# Altium integrated library TI Power Management Linear Regulator Single Channel LDO (0-350mA).IntLib: 1648 symbols (part 57 of 66)
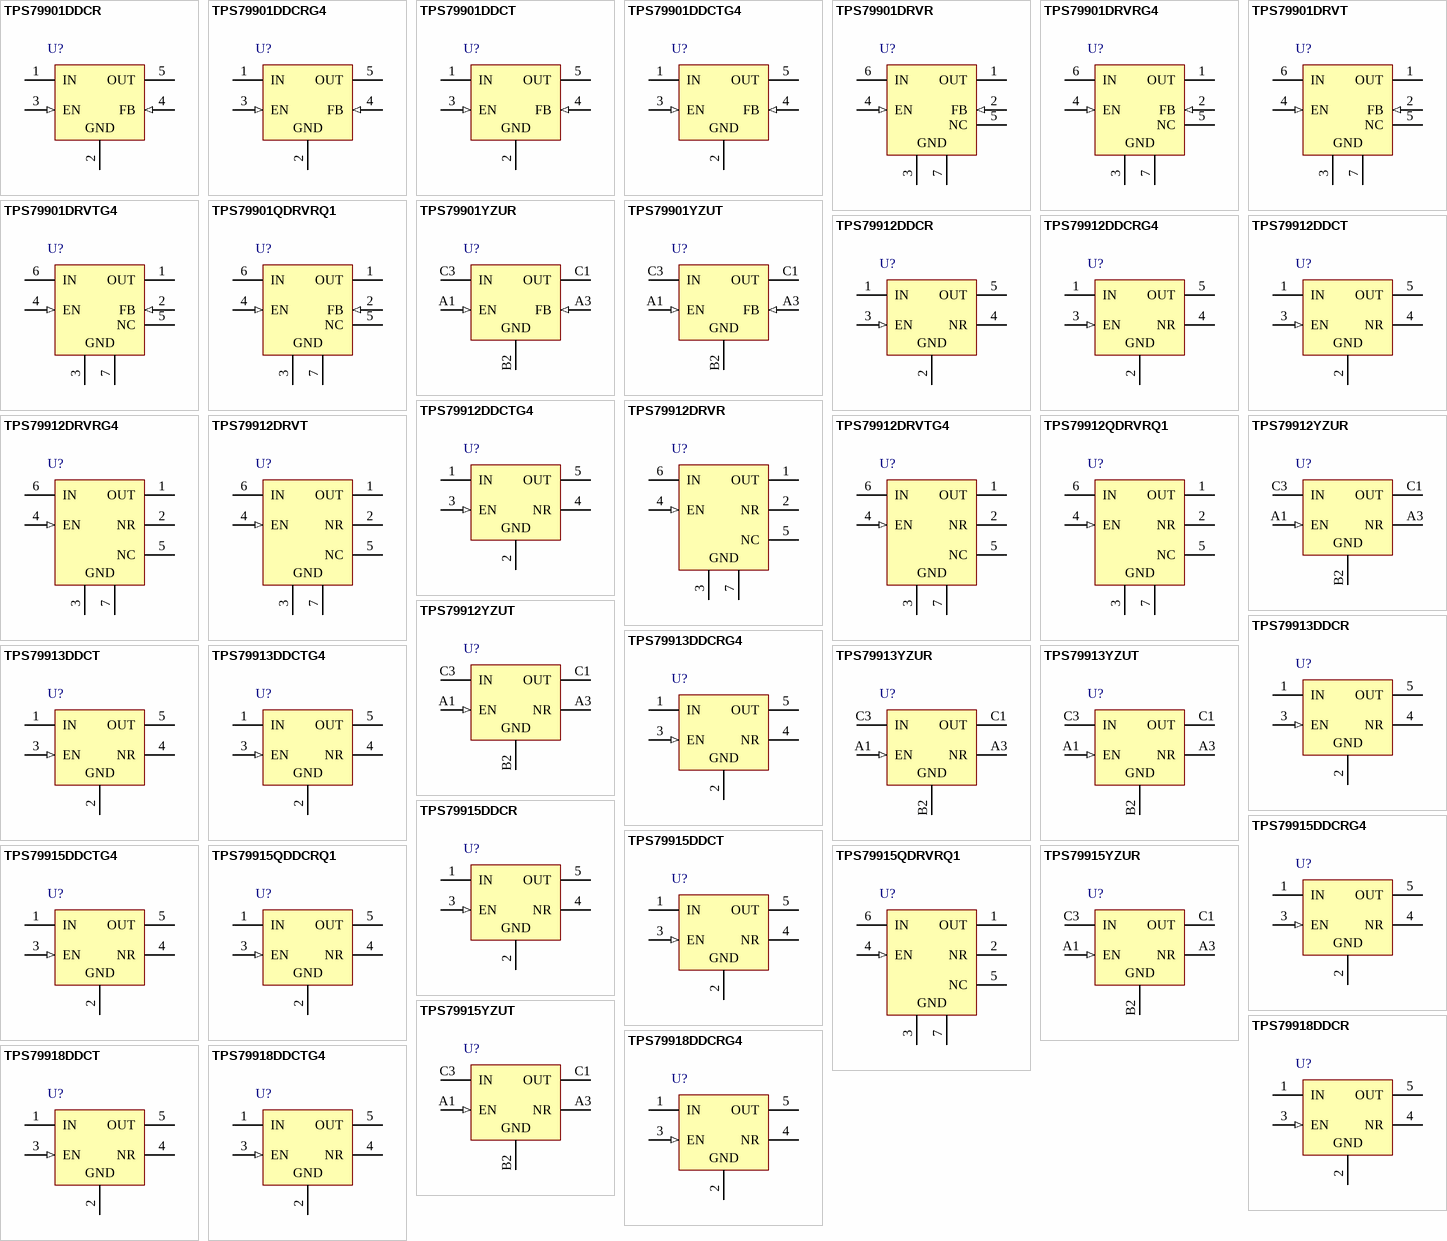
[diagram p98: symbols TPS79901DDCR to TPS79918DDCTG4]

## TPS79918DDCT
designator U?
Single Output High PSRR LDO, 200 mA, Fixed 1.8 V Output, 2.7 to 6.5 V Input, with Low IQ, 5-pin SOT (DDC), -40 to 85 degC, Green (RoHS & no Sb/Br); Manufacturer: Texas Instruments; PartNumber: TPS79918DDCT; Accuracy(%): 2; Fixed Output Options(V): 1.8; Iout(Max)(A): 0.2; Iq(Typ)(mA): 0.04; Rating: Catalog; SubFamily: Single Channel LDO; Vdo(Typ)(mV): 100; Vin(Max)(V): 6.5; Vin(Min)(V): 2.7; DatasheetVersion: SBVS056J; PackageVersion: 4204403-2/E; PackageReference: DDC5; PackageDescription: 5-Pin Plastic Small Outline, Body 2.9 x 1.6 mm, 0.95 mm Pitch; Supplier 1: Digi-Key; Supplier Part Number 1: 296-27117-2-ND; Supplier 2: Digi-Key; Supplier Part Number 2: 296-27117-1-ND; Supplier 3: Digi-Key; Supplier Part Number 3: 296-27117-6-ND; Supplier 4: Farnell; Supplier Part Number 4: 1135398RL; Supplier 5: Farnell; Supplier Part Number 5: 1135398; Supplier 6: Newark; Supplier Part Number 6: 93K0948; Supplier 7: Mouser; Supplier Part Number 7: 595-TPS79918DDCT; Eco-Plan: Green (RoHS & no Sb/Br); Vout Adj(Max)(V): 1.8; Vout Adj(Min)(V): 1.8; Mounting Technology: Surface Mount; Code_JEDEC: MO-193; ComponentLink1Description: Manufacturer URL; ComponentLink1URL: http://www.ti.com/; ComponentLink2Description: Datasheet; ComponentLink2URL: http://www.ti.com/general/docs/lit/getliterature.tsp?genericPartNumber=TPS79918&fileType=pdf; ComponentLink3Description: Package Specification; ComponentLink3URL: http://www.ti.com/litv/pdf/mpds123d
footprint TI-DDC5_N (SOT23, 5-Leads, Body 2.9x1.6mm, Pitch 0.95mm, IPC Medium Density)
footprint TI-DDC5_L (SOT23, 5-Leads, Body 2.9x1.6mm, Pitch 0.95mm, IPC High Density)
footprint TI-DDC5_M (SOT23, 5-Leads, Body 2.9x1.6mm, Pitch 0.95mm, IPC Low Density)
pins: 1 IN (power) "Input supply.", 2 GND (power) "Ground.", 3 EN (in) "Driving the enable pin (EN) high turns on the regulator .Driving this pin low puts the regulator into shutdown mode.EN can be connected to IN if not used.", 4 NR "Fixed voltage versions only; connecting an external capacitor to this pin bypasses noise generated by the internal bandgap. This capacitor allows output noise to be reduced to very low levels.", 5 OUT (power) "Output for the regulator. A small capacitor (total typical capacitance >= 2.0uF ceramic) is needed from this pin to ground to assure stability."

## TPS79918DDCTG4
designator U?
Single Output High PSRR LDO, 200 mA, Fixed 1.8 V Output, 2.7 to 6.5 V Input, with Low IQ, 5-pin SOT (DDC), -40 to 85 degC, Green (RoHS & no Sb/Br); Manufacturer: Texas Instruments; PartNumber: TPS79918DDCTG4; Accuracy(%): 2; Fixed Output Options(V): 1.8; Iout(Max)(A): 0.2; Iq(Typ)(mA): 0.04; Rating: Catalog; SubFamily: Single Channel LDO; Vdo(Typ)(mV): 100; Vin(Max)(V): 6.5; Vin(Min)(V): 2.7; DatasheetVersion: SBVS056J; PackageVersion: 4204403-2/E; PackageReference: DDC5; PackageDescription: 5-Pin Plastic Small Outline, Body 2.9 x 1.6 mm, 0.95 mm Pitch; Supplier 1: Digi-Key; Supplier Part Number 1: TPS79918DDCTG4-ND; Supplier 2: Newark; Supplier Part Number 2: 24K6233; Supplier 3: Mouser; Supplier Part Number 3: 595-TPS79918DDCTG4; Eco-Plan: Green (RoHS & no Sb/Br); Vout Adj(Max)(V): 1.8; Vout Adj(Min)(V): 1.8; Mounting Technology: Surface Mount; Code_JEDEC: MO-193; ComponentLink1Description: Manufacturer URL; ComponentLink1URL: http://www.ti.com/; ComponentLink2Description: Datasheet; ComponentLink2URL: http://www.ti.com/general/docs/lit/getliterature.tsp?genericPartNumber=TPS79918&fileType=pdf; ComponentLink3Description: Package Specification; ComponentLink3URL: http://www.ti.com/litv/pdf/mpds123d
footprint TI-DDC5_N (SOT23, 5-Leads, Body 2.9x1.6mm, Pitch 0.95mm, IPC Medium Density)
footprint TI-DDC5_L (SOT23, 5-Leads, Body 2.9x1.6mm, Pitch 0.95mm, IPC High Density)
footprint TI-DDC5_M (SOT23, 5-Leads, Body 2.9x1.6mm, Pitch 0.95mm, IPC Low Density)
pins: 1 IN (power) "Input supply.", 2 GND (power) "Ground.", 3 EN (in) "Driving the enable pin (EN) high turns on the regulator .Driving this pin low puts the regulator into shutdown mode.EN can be connected to IN if not used.", 4 NR "Fixed voltage versions only; connecting an external capacitor to this pin bypasses noise generated by the internal bandgap. This capacitor allows output noise to be reduced to very low levels.", 5 OUT (power) "Output for the regulator. A small capacitor (total typical capacitance >= 2.0uF ceramic) is needed from this pin to ground to assure stability."

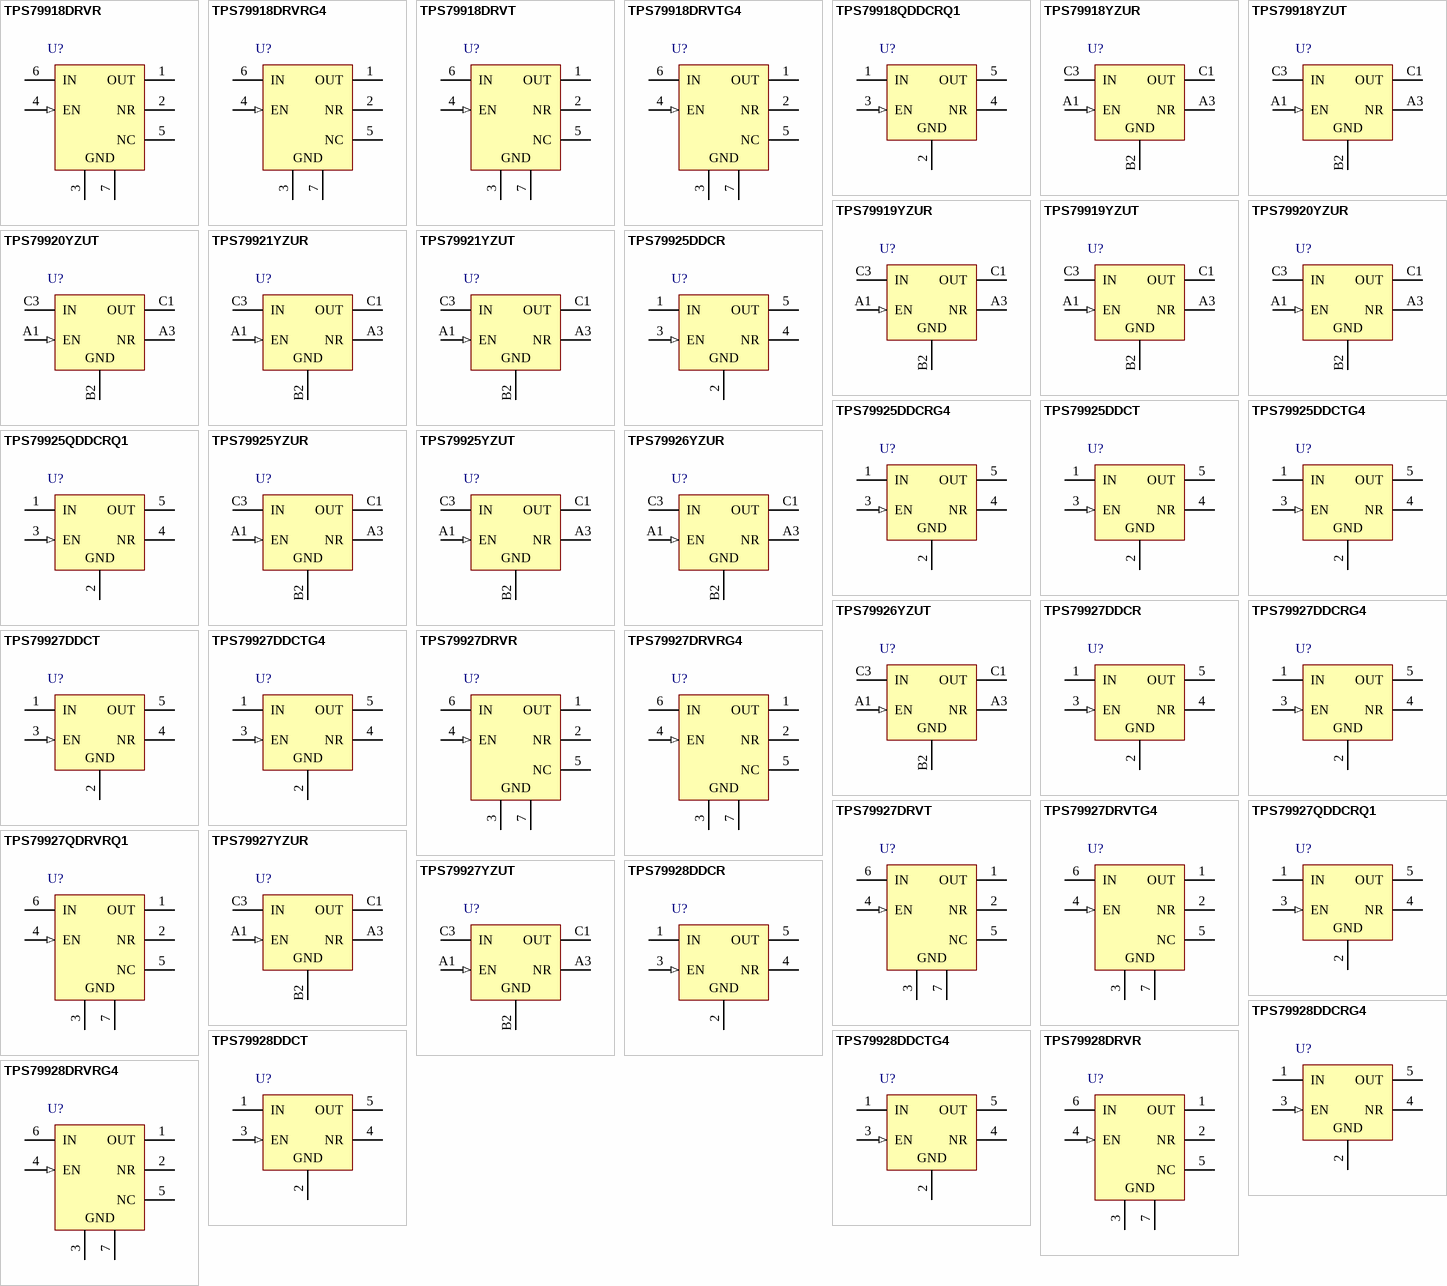
[diagram p37: symbols TPS79918DRVR to TPS79928DRVRG4]

## TPS79918DRVR
designator U?
Single Output High PSRR LDO, 200 mA, Fixed 1.8 V Output, 2.7 to 6.5 V Input, with Low IQ, 6-pin SON (DRV), -40 to 85 degC, Green (RoHS & no Sb/Br); Manufacturer: Texas Instruments; PartNumber: TPS79918DRVR; Accuracy(%): 2; Fixed Output Options(V): 1.8; Iout(Max)(A): 0.2; Iq(Typ)(mA): 0.04; Rating: Catalog; SubFamily: Single Channel LDO; Vdo(Typ)(mV): 100; Vin(Max)(V): 6.5; Vin(Min)(V): 2.7; DatasheetVersion: SBVS056J; PackageVersion: 4206925/E; PackageReference: DRV6-1600X1000TP; PackageDescription: 6-Pin Plastic Small Outline No-Lead, Body 2 x 2 mm, Pitch 0.65 mm; Supplier 1: Digi-Key; Supplier Part Number 1: TPS79918DRVR-ND; Supplier 2: Newark; Supplier Part Number 2: 66K4567; Supplier 3: Mouser; Supplier Part Number 3: 595-TPS79918DRVR; Eco-Plan: Green (RoHS & no Sb/Br); Vout Adj(Max)(V): 1.8; Vout Adj(Min)(V): 1.8; Mounting Technology: Surface Mount; ComponentLink1Description: Manufacturer URL; ComponentLink1URL: http://www.ti.com/; ComponentLink2Description: Datasheet; ComponentLink2URL: http://www.ti.com/general/docs/lit/getliterature.tsp?genericPartNumber=TPS79918&fileType=pdf; ComponentLink3Description: Package Specification; ComponentLink3URL: http://www.ti.com/litv/pdf/mpds216d
footprint TI-DRV6-1600X1000TP_V (SON, 6-Leads, Body 2x2mm, Pitch 0.65mm, Thermal Pad 1X1.6mm)
pins: 1 OUT (power) "Output of the regulator. A small capacitor (total typical capacitance >= 2.0uF ceramic) is needed from this pin to ground to assure stability.", 2 NR "Fixed voltage versions only; connecting an external capacitor to this pin bypasses noise generated by the internal bandgap. This allows output noise to be reduced to very low levels.", 3 GND (power) "Ground", 4 EN (in) "Driving the enable pin (EN) high turns on the regulator. Driving this pin low puts the regulator into shutdown mode. EN can be connected to IN if not used.", 5 NC "Not internally connected. This pin must either be left open, or tied to GND.", 6 IN (power) "Input supply.", 7 GND (power) "The pad must be tied to GND."

## TPS79918DRVRG4
designator U?
Single Output High PSRR LDO, 200 mA, Fixed 1.8 V Output, 2.7 to 6.5 V Input, with Low IQ, 6-pin SON (DRV), -40 to 85 degC, Green (RoHS & no Sb/Br); Manufacturer: Texas Instruments; PartNumber: TPS79918DRVRG4; Accuracy(%): 2; Fixed Output Options(V): 1.8; Iout(Max)(A): 0.2; Iq(Typ)(mA): 0.04; Rating: Catalog; SubFamily: Single Channel LDO; Vdo(Typ)(mV): 100; Vin(Max)(V): 6.5; Vin(Min)(V): 2.7; DatasheetVersion: SBVS056J; PackageVersion: 4206925/E; PackageReference: DRV6-1600X1000TP; PackageDescription: 6-Pin Plastic Small Outline No-Lead, Body 2 x 2 mm, Pitch 0.65 mm; Supplier 1: Digi-Key; Supplier Part Number 1: TPS79918DRVRG4-ND; Supplier 2: Mouser; Supplier Part Number 2: 595-TPS79918DRVRG4; Eco-Plan: Green (RoHS & no Sb/Br); Vout Adj(Max)(V): 1.8; Vout Adj(Min)(V): 1.8; Mounting Technology: Surface Mount; ComponentLink1Description: Manufacturer URL; ComponentLink1URL: http://www.ti.com/; ComponentLink2Description: Datasheet; ComponentLink2URL: http://www.ti.com/general/docs/lit/getliterature.tsp?genericPartNumber=TPS79918&fileType=pdf; ComponentLink3Description: Package Specification; ComponentLink3URL: http://www.ti.com/litv/pdf/mpds216d
footprint TI-DRV6-1600X1000TP_V (SON, 6-Leads, Body 2x2mm, Pitch 0.65mm, Thermal Pad 1X1.6mm)
pins: 1 OUT (power) "Output of the regulator. A small capacitor (total typical capacitance >= 2.0uF ceramic) is needed from this pin to ground to assure stability.", 2 NR "Fixed voltage versions only; connecting an external capacitor to this pin bypasses noise generated by the internal bandgap. This allows output noise to be reduced to very low levels.", 3 GND (power) "Ground", 4 EN (in) "Driving the enable pin (EN) high turns on the regulator. Driving this pin low puts the regulator into shutdown mode. EN can be connected to IN if not used.", 5 NC "Not internally connected. This pin must either be left open, or tied to GND.", 6 IN (power) "Input supply.", 7 GND (power) "The pad must be tied to GND."

## TPS79918DRVT
designator U?
Single Output High PSRR LDO, 200 mA, Fixed 1.8 V Output, 2.7 to 6.5 V Input, with Low IQ, 6-pin SON (DRV), -40 to 85 degC, Green (RoHS & no Sb/Br); Manufacturer: Texas Instruments; PartNumber: TPS79918DRVT; Accuracy(%): 2; Fixed Output Options(V): 1.8; Iout(Max)(A): 0.2; Iq(Typ)(mA): 0.04; Rating: Catalog; SubFamily: Single Channel LDO; Vdo(Typ)(mV): 100; Vin(Max)(V): 6.5; Vin(Min)(V): 2.7; DatasheetVersion: SBVS056J; PackageVersion: 4206925/E; PackageReference: DRV6-1600X1000TP; PackageDescription: 6-Pin Plastic Small Outline No-Lead, Body 2 x 2 mm, Pitch 0.65 mm; Supplier 1: Digi-Key; Supplier Part Number 1: 296-19367-2-ND; Supplier 2: Digi-Key; Supplier Part Number 2: 296-19367-1-ND; Supplier 3: Digi-Key; Supplier Part Number 3: 296-19367-6-ND; Supplier 4: Newark; Supplier Part Number 4: 66K4568; Supplier 5: Mouser; Supplier Part Number 5: 595-TPS79918DRVT; Eco-Plan: Green (RoHS & no Sb/Br); Vout Adj(Max)(V): 1.8; Vout Adj(Min)(V): 1.8; Mounting Technology: Surface Mount; ComponentLink1Description: Manufacturer URL; ComponentLink1URL: http://www.ti.com/; ComponentLink2Description: Datasheet; ComponentLink2URL: http://www.ti.com/general/docs/lit/getliterature.tsp?genericPartNumber=TPS79918&fileType=pdf; ComponentLink3Description: Package Specification; ComponentLink3URL: http://www.ti.com/litv/pdf/mpds216d
footprint TI-DRV6-1600X1000TP_V (SON, 6-Leads, Body 2x2mm, Pitch 0.65mm, Thermal Pad 1X1.6mm)
pins: 1 OUT (power) "Output of the regulator. A small capacitor (total typical capacitance >= 2.0uF ceramic) is needed from this pin to ground to assure stability.", 2 NR "Fixed voltage versions only; connecting an external capacitor to this pin bypasses noise generated by the internal bandgap. This allows output noise to be reduced to very low levels.", 3 GND (power) "Ground", 4 EN (in) "Driving the enable pin (EN) high turns on the regulator. Driving this pin low puts the regulator into shutdown mode. EN can be connected to IN if not used.", 5 NC "Not internally connected. This pin must either be left open, or tied to GND.", 6 IN (power) "Input supply.", 7 GND (power) "The pad must be tied to GND."

## TPS79918DRVTG4
designator U?
Single Output High PSRR LDO, 200 mA, Fixed 1.8 V Output, 2.7 to 6.5 V Input, with Low IQ, 6-pin SON (DRV), -40 to 85 degC, Green (RoHS & no Sb/Br); Manufacturer: Texas Instruments; PartNumber: TPS79918DRVTG4; Accuracy(%): 2; Fixed Output Options(V): 1.8; Iout(Max)(A): 0.2; Iq(Typ)(mA): 0.04; Rating: Catalog; SubFamily: Single Channel LDO; Vdo(Typ)(mV): 100; Vin(Max)(V): 6.5; Vin(Min)(V): 2.7; DatasheetVersion: SBVS056J; PackageVersion: 4206925/E; PackageReference: DRV6-1600X1000TP; PackageDescription: 6-Pin Plastic Small Outline No-Lead, Body 2 x 2 mm, Pitch 0.65 mm; Supplier 1: Digi-Key; Supplier Part Number 1: TPS79918DRVTG4-ND; Supplier 2: Mouser; Supplier Part Number 2: 595-TPS79918DRVTG4; Eco-Plan: Green (RoHS & no Sb/Br); Vout Adj(Max)(V): 1.8; Vout Adj(Min)(V): 1.8; Mounting Technology: Surface Mount; ComponentLink1Description: Manufacturer URL; ComponentLink1URL: http://www.ti.com/; ComponentLink2Description: Datasheet; ComponentLink2URL: http://www.ti.com/general/docs/lit/getliterature.tsp?genericPartNumber=TPS79918&fileType=pdf; ComponentLink3Description: Package Specification; ComponentLink3URL: http://www.ti.com/litv/pdf/mpds216d
footprint TI-DRV6-1600X1000TP_V (SON, 6-Leads, Body 2x2mm, Pitch 0.65mm, Thermal Pad 1X1.6mm)
pins: 1 OUT (power) "Output of the regulator. A small capacitor (total typical capacitance >= 2.0uF ceramic) is needed from this pin to ground to assure stability.", 2 NR "Fixed voltage versions only; connecting an external capacitor to this pin bypasses noise generated by the internal bandgap. This allows output noise to be reduced to very low levels.", 3 GND (power) "Ground", 4 EN (in) "Driving the enable pin (EN) high turns on the regulator. Driving this pin low puts the regulator into shutdown mode. EN can be connected to IN if not used.", 5 NC "Not internally connected. This pin must either be left open, or tied to GND.", 6 IN (power) "Input supply.", 7 GND (power) "The pad must be tied to GND."

## TPS79918QDDCRQ1
designator U?
Single Output High PSRR LDO, 200 mA, Fixed 1.8 V Output, 2.7 to 6.5 V Input, with Low IQ, 5-pin SOT (DDC), -40 to 125 degC, Green (RoHS & no Sb/Br); Manufacturer: Texas Instruments; PartNumber: TPS79918QDDCRQ1; Accuracy(%): 2; Fixed Output Options(V): 1.8; Iout(Max)(A): 0.2; Iq(Typ)(mA): 0.04; Rating: Automotive; SubFamily: Single Channel LDO; Vdo(Typ)(mV): 100; Vin(Max)(V): 6.5; Vin(Min)(V): 2.7; DatasheetVersion: SBVS097E; PackageVersion: 4204403-2/E; PackageReference: DDC5; PackageDescription: 5-Pin Plastic Small Outline, Body 2.9 x 1.6 mm, 0.95 mm Pitch; Supplier 1: Digi-Key; Supplier Part Number 1: 296-24781-2-ND; Supplier 2: Digi-Key; Supplier Part Number 2: 296-24781-1-ND; Supplier 3: Digi-Key; Supplier Part Number 3: 296-24781-6-ND; Supplier 4: Newark; Supplier Part Number 4: 03P5281; Supplier 5: Mouser; Supplier Part Number 5: 595-TPS79918QDDCRQ1; Eco-Plan: Green (RoHS & no Sb/Br); Vout Adj(Max)(V): 1.8; Vout Adj(Min)(V): 1.8; Mounting Technology: Surface Mount; Code_JEDEC: MO-193; ComponentLink1Description: Manufacturer URL; ComponentLink1URL: http://www.ti.com/; ComponentLink2Description: Datasheet; ComponentLink2URL: http://www.ti.com/general/docs/lit/getliterature.tsp?genericPartNumber=TPS79918-Q1&fileType=pdf; ComponentLink3Description: Package Specification; ComponentLink3URL: http://www.ti.com/litv/pdf/mpds123d
footprint TI-DDC5_N (SOT23, 5-Leads, Body 2.9x1.6mm, Pitch 0.95mm, IPC Medium Density)
footprint TI-DDC5_L (SOT23, 5-Leads, Body 2.9x1.6mm, Pitch 0.95mm, IPC High Density)
footprint TI-DDC5_M (SOT23, 5-Leads, Body 2.9x1.6mm, Pitch 0.95mm, IPC Low Density)
pins: 1 IN (power) "Input supply.", 2 GND (power) "Ground.", 3 EN (in) "Driving the enable pin (EN) high turns on the regulator .Driving this pin low puts the regulator into shutdown mode.EN can be connected to IN if not used.", 4 NR "Fixed voltage versions only; connecting an external capacitor to this pin bypasses noise generated by the internal bandgap. This capacitor allows output noise to be reduced to very low levels.", 5 OUT (power) "Output for the regulator. A small capacitor (total typical capacitance >= 2.0uF ceramic) is needed from this pin to ground to assure stability."

## TPS79918YZUR
designator U?
Single Output High PSRR LDO, 200 mA, Fixed 1.8 V Output, 2.7 to 6.5 V Input, with Low IQ, 5-pin DSBGA (YZU), -40 to 85 degC, Green (RoHS & no Sb/Br); Manufacturer: Texas Instruments; PartNumber: TPS79918YZUR; Accuracy(%): 2; Fixed Output Options(V): 1.8; Iout(Max)(A): 0.2; Iq(Typ)(mA): 0.04; Rating: Catalog; SubFamily: Single Channel LDO; Vdo(Typ)(mV): 100; Vin(Max)(V): 6.5; Vin(Min)(V): 2.7; DatasheetVersion: SBVS056J; PackageVersion: 4205678/D; PackageReference: YZU5; PackageDescription: 5-Pin Silicon Grid Array, Body 1.337 x 0.971 mm, Pitch 0.25 mm; Supplier 1: Digi-Key; Supplier Part Number 1: 296-19482-2-ND; Supplier 2: Digi-Key; Supplier Part Number 2: 296-19482-1-ND; Supplier 3: Digi-Key; Supplier Part Number 3: 296-19482-6-ND; Supplier 4: Newark; Supplier Part Number 4: 69K0685; Supplier 5: Mouser; Supplier Part Number 5: 595-TPS79918YZUR; Eco-Plan: Green (RoHS & no Sb/Br); Vout Adj(Max)(V): 1.8; Vout Adj(Min)(V): 1.8; Mounting Technology: Surface Mount; ComponentLink1Description: Manufacturer URL; ComponentLink1URL: http://www.ti.com/; ComponentLink2Description: Datasheet; ComponentLink2URL: http://www.ti.com/general/docs/lit/getliterature.tsp?genericPartNumber=TPS79918&fileType=pdf; ComponentLink3Description: Package Specification; ComponentLink3URL: http://www.ti.com/litv/pdf/mpds018i
footprint TI-YZU5-1337x971DE (BGA, 5-Balls, Body 1.337x0.971mm, Pitch 0.25mm)
pins: A1 EN (in) "Driving the enable pin (EN) high turns on the regulator. Driving this pin low puts the regulator into shutdown mode. EN can be connected to IN if not used.", A3 NR "Fixed voltage versions only; connecting an external capacitor to this pin bypasses noise generated by the internal bandgap. This capacitor allows output noise to be reduced to very low levels.", B2 GND (power) "Ground", C1 OUT (power) "Output of the regulator. A small capacitor (total typical capacitance >= 2.0mF ceramic) is needed from this pin to ground to assure stability.", C3 IN (power) "Input supply."

## TPS79918YZUT
designator U?
Single Output High PSRR LDO, 200 mA, Fixed 1.8 V Output, 2.7 to 6.5 V Input, with Low IQ, 5-pin DSBGA (YZU), -40 to 85 degC, Green (RoHS & no Sb/Br); Manufacturer: Texas Instruments; PartNumber: TPS79918YZUT; Accuracy(%): 2; Fixed Output Options(V): 1.8; Iout(Max)(A): 0.2; Iq(Typ)(mA): 0.04; Rating: Catalog; SubFamily: Single Channel LDO; Vdo(Typ)(mV): 100; Vin(Max)(V): 6.5; Vin(Min)(V): 2.7; DatasheetVersion: SBVS056J; PackageVersion: 4205678/D; PackageReference: YZU5; PackageDescription: 5-Pin Silicon Grid Array, Body 1.337 x 0.971 mm, Pitch 0.25 mm; Supplier 1: Digi-Key; Supplier Part Number 1: 296-19300-2-ND; Supplier 2: Digi-Key; Supplier Part Number 2: 296-19300-1-ND; Supplier 3: Newark; Supplier Part Number 3: 69K0686; Supplier 4: Mouser; Supplier Part Number 4: 595-TPS79918YZUT; Eco-Plan: Green (RoHS & no Sb/Br); Vout Adj(Max)(V): 1.8; Vout Adj(Min)(V): 1.8; Mounting Technology: Surface Mount; ComponentLink1Description: Manufacturer URL; ComponentLink1URL: http://www.ti.com/; ComponentLink2Description: Datasheet; ComponentLink2URL: http://www.ti.com/general/docs/lit/getliterature.tsp?genericPartNumber=TPS79918&fileType=pdf; ComponentLink3Description: Package Specification; ComponentLink3URL: http://www.ti.com/litv/pdf/mpds018i
footprint TI-YZU5-1337x971DE (BGA, 5-Balls, Body 1.337x0.971mm, Pitch 0.25mm)
pins: A1 EN (in) "Driving the enable pin (EN) high turns on the regulator. Driving this pin low puts the regulator into shutdown mode. EN can be connected to IN if not used.", A3 NR "Fixed voltage versions only; connecting an external capacitor to this pin bypasses noise generated by the internal bandgap. This capacitor allows output noise to be reduced to very low levels.", B2 GND (power) "Ground", C1 OUT (power) "Output of the regulator. A small capacitor (total typical capacitance >= 2.0mF ceramic) is needed from this pin to ground to assure stability.", C3 IN (power) "Input supply."

## TPS79919YZUR
designator U?
Single Output High PSRR LDO, 200 mA, Fixed 1.9 V Output, 2.7 to 6.5 V Input, with Low IQ, 5-pin DSBGA (YZU), -40 to 85 degC, Green (RoHS & no Sb/Br); Manufacturer: Texas Instruments; PartNumber: TPS79919YZUR; Accuracy(%): 2; Fixed Output Options(V): 1.9; Iout(Max)(A): 0.2; Iq(Typ)(mA): 0.04; Rating: Catalog; SubFamily: Single Channel LDO; Vdo(Typ)(mV): 100; Vin(Max)(V): 6.5; Vin(Min)(V): 2.7; DatasheetVersion: SBVS056J; PackageVersion: 4205678/D; PackageReference: YZU5; PackageDescription: 5-Pin Silicon Grid Array, Body 1.337 x 0.971 mm, Pitch 0.25 mm; Supplier 1: Digi-Key; Supplier Part Number 1: TPS79919YZUR-ND; Supplier 2: Newark; Supplier Part Number 2: 57K1333; Supplier 3: Mouser; Supplier Part Number 3: 595-TPS79919YZUR; Eco-Plan: Green (RoHS & no Sb/Br); Vout Adj(Max)(V): 1.9; Vout Adj(Min)(V): 1.9; Mounting Technology: Surface Mount; ComponentLink1Description: Manufacturer URL; ComponentLink1URL: http://www.ti.com/; ComponentLink2Description: Datasheet; ComponentLink2URL: http://www.ti.com/general/docs/lit/getliterature.tsp?genericPartNumber=TPS79919&fileType=pdf; ComponentLink3Description: Package Specification; ComponentLink3URL: http://www.ti.com/litv/pdf/mpds018i
footprint TI-YZU5-1337x971DE (BGA, 5-Balls, Body 1.337x0.971mm, Pitch 0.25mm)
pins: A1 EN (in) "Driving the enable pin (EN) high turns on the regulator. Driving this pin low puts the regulator into shutdown mode. EN can be connected to IN if not used.", A3 NR "Fixed voltage versions only; connecting an external capacitor to this pin bypasses noise generated by the internal bandgap. This capacitor allows output noise to be reduced to very low levels.", B2 GND (power) "Ground", C1 OUT (power) "Output of the regulator. A small capacitor (total typical capacitance >= 2.0mF ceramic) is needed from this pin to ground to assure stability.", C3 IN (power) "Input supply."

## TPS79919YZUT
designator U?
Single Output High PSRR LDO, 200 mA, Fixed 1.9 V Output, 2.7 to 6.5 V Input, with Low IQ, 5-pin DSBGA (YZU), -40 to 85 degC, Green (RoHS & no Sb/Br); Manufacturer: Texas Instruments; PartNumber: TPS79919YZUT; Accuracy(%): 2; Fixed Output Options(V): 1.9; Iout(Max)(A): 0.2; Iq(Typ)(mA): 0.04; Rating: Catalog; SubFamily: Single Channel LDO; Vdo(Typ)(mV): 100; Vin(Max)(V): 6.5; Vin(Min)(V): 2.7; DatasheetVersion: SBVS056J; PackageVersion: 4205678/D; PackageReference: YZU5; PackageDescription: 5-Pin Silicon Grid Array, Body 1.337 x 0.971 mm, Pitch 0.25 mm; Supplier 1: Digi-Key; Supplier Part Number 1: 296-18344-2-ND; Supplier 2: Digi-Key; Supplier Part Number 2: 296-18344-1-ND; Supplier 3: Newark; Supplier Part Number 3: 57K1334; Supplier 4: Mouser; Supplier Part Number 4: 595-TPS79919YZUT; Eco-Plan: Green (RoHS & no Sb/Br); Vout Adj(Max)(V): 1.9; Vout Adj(Min)(V): 1.9; Mounting Technology: Surface Mount; ComponentLink1Description: Manufacturer URL; ComponentLink1URL: http://www.ti.com/; ComponentLink2Description: Datasheet; ComponentLink2URL: http://www.ti.com/general/docs/lit/getliterature.tsp?genericPartNumber=TPS79919&fileType=pdf; ComponentLink3Description: Package Specification; ComponentLink3URL: http://www.ti.com/litv/pdf/mpds018i
footprint TI-YZU5-1337x971DE (BGA, 5-Balls, Body 1.337x0.971mm, Pitch 0.25mm)
pins: A1 EN (in) "Driving the enable pin (EN) high turns on the regulator. Driving this pin low puts the regulator into shutdown mode. EN can be connected to IN if not used.", A3 NR "Fixed voltage versions only; connecting an external capacitor to this pin bypasses noise generated by the internal bandgap. This capacitor allows output noise to be reduced to very low levels.", B2 GND (power) "Ground", C1 OUT (power) "Output of the regulator. A small capacitor (total typical capacitance >= 2.0mF ceramic) is needed from this pin to ground to assure stability.", C3 IN (power) "Input supply."

## TPS79920YZUR
designator U?
Single Output High PSRR LDO, 200 mA, Fixed 2 V Output, 2.7 to 6.5 V Input, with Low IQ, 5-pin DSBGA (YZU), -40 to 85 degC, Green (RoHS & no Sb/Br); Manufacturer: Texas Instruments; PartNumber: TPS79920YZUR; Accuracy(%): 2; Iout(Max)(A): 0.2; Iq(Typ)(mA): 0.04; Rating: Catalog; SubFamily: Single Channel LDO; Vdo(Typ)(mV): 100; Vin(Max)(V): 6.5; Vin(Min)(V): 2.7; DatasheetVersion: SBVS056J; PackageVersion: 4205678/D; PackageReference: YZU5; PackageDescription: 5-Pin Silicon Grid Array, Body 1.337 x 0.971 mm, Pitch 0.25 mm; Supplier 1: Digi-Key; Supplier Part Number 1: TPS79920YZUR-ND; Supplier 2: Newark; Supplier Part Number 2: 31M0460; Supplier 3: Mouser; Supplier Part Number 3: 595-TPS79920YZUR; Eco-Plan: Green (RoHS & no Sb/Br); Fixed Output Options(V): 2; Vout Adj(Max)(V): 2; Vout Adj(Min)(V): 2; Mounting Technology: Surface Mount; ComponentLink1Description: Manufacturer URL; ComponentLink1URL: http://www.ti.com/; ComponentLink2Description: Datasheet; ComponentLink2URL: http://www.ti.com/general/docs/lit/getliterature.tsp?genericPartNumber=TPS79920&fileType=pdf; ComponentLink3Description: Package Specification; ComponentLink3URL: http://www.ti.com/litv/pdf/mpds018i
footprint TI-YZU5-1337x971DE (BGA, 5-Balls, Body 1.337x0.971mm, Pitch 0.25mm)
pins: A1 EN (in) "Driving the enable pin (EN) high turns on the regulator. Driving this pin low puts the regulator into shutdown mode. EN can be connected to IN if not used.", A3 NR "Fixed voltage versions only; connecting an external capacitor to this pin bypasses noise generated by the internal bandgap. This capacitor allows output noise to be reduced to very low levels.", B2 GND (power) "Ground", C1 OUT (power) "Output of the regulator. A small capacitor (total typical capacitance >= 2.0mF ceramic) is needed from this pin to ground to assure stability.", C3 IN (power) "Input supply."

## TPS79920YZUT
designator U?
Single Output High PSRR LDO, 200 mA, Fixed 2 V Output, 2.7 to 6.5 V Input, with Low IQ, 5-pin DSBGA (YZU), -40 to 85 degC, Green (RoHS & no Sb/Br); Manufacturer: Texas Instruments; PartNumber: TPS79920YZUT; Accuracy(%): 2; Iout(Max)(A): 0.2; Iq(Typ)(mA): 0.04; Rating: Catalog; SubFamily: Single Channel LDO; Vdo(Typ)(mV): 100; Vin(Max)(V): 6.5; Vin(Min)(V): 2.7; DatasheetVersion: SBVS056J; PackageVersion: 4205678/D; PackageReference: YZU5; PackageDescription: 5-Pin Silicon Grid Array, Body 1.337 x 0.971 mm, Pitch 0.25 mm; Supplier 1: Digi-Key; Supplier Part Number 1: 296-21564-2-ND; Supplier 2: Digi-Key; Supplier Part Number 2: 296-21564-1-ND; Supplier 3: Digi-Key; Supplier Part Number 3: 296-21564-6-ND; Supplier 4: Newark; Supplier Part Number 4: 31M0461; Supplier 5: Mouser; Supplier Part Number 5: 595-TPS79920YZUT; Eco-Plan: Green (RoHS & no Sb/Br); Fixed Output Options(V): 2; Vout Adj(Max)(V): 2; Vout Adj(Min)(V): 2; Mounting Technology: Surface Mount; ComponentLink1Description: Manufacturer URL; ComponentLink1URL: http://www.ti.com/; ComponentLink2Description: Datasheet; ComponentLink2URL: http://www.ti.com/general/docs/lit/getliterature.tsp?genericPartNumber=TPS79920&fileType=pdf; ComponentLink3Description: Package Specification; ComponentLink3URL: http://www.ti.com/litv/pdf/mpds018i
footprint TI-YZU5-1337x971DE (BGA, 5-Balls, Body 1.337x0.971mm, Pitch 0.25mm)
pins: A1 EN (in) "Driving the enable pin (EN) high turns on the regulator. Driving this pin low puts the regulator into shutdown mode. EN can be connected to IN if not used.", A3 NR "Fixed voltage versions only; connecting an external capacitor to this pin bypasses noise generated by the internal bandgap. This capacitor allows output noise to be reduced to very low levels.", B2 GND (power) "Ground", C1 OUT (power) "Output of the regulator. A small capacitor (total typical capacitance >= 2.0mF ceramic) is needed from this pin to ground to assure stability.", C3 IN (power) "Input supply."

## TPS79921YZUR
designator U?
Single Output High PSRR LDO, 200 mA, Fixed 2.1 V Output, 2.7 to 6.5 V Input, with Ultra-Low Noise, 5-pin DSBGA (YZU), -40 to 85 degC, Green (RoHS & no Sb/Br); Manufacturer: Texas Instruments; PartNumber: TPS79921YZUR; Accuracy(%): 2; Fixed Output Options(V): 2.1; Iout(Max)(A): 0.2; Iq(Typ)(mA): 0.04; Rating: Catalog; SubFamily: Single Channel LDO; Vdo(Typ)(mV): 100; Vin(Max)(V): 6.5; Vin(Min)(V): 2.7; DatasheetVersion: SBVS056J; PackageVersion: 4205678/D; PackageReference: YZU5; PackageDescription: 5-Pin Silicon Grid Array, Body 1.337 x 0.971 mm, Pitch 0.25 mm; Supplier 1: Digi-Key; Supplier Part Number 1: 296-22988-2-ND; Supplier 2: Digi-Key; Supplier Part Number 2: 296-22988-1-ND; Supplier 3: Digi-Key; Supplier Part Number 3: 296-22988-6-ND; Supplier 4: Newark; Supplier Part Number 4: 72M4785; Supplier 5: Mouser; Supplier Part Number 5: 595-TPS79921YZUR; Eco-Plan: Green (RoHS & no Sb/Br); Vout Adj(Max)(V): 2.1; Vout Adj(Min)(V): 2.1; Mounting Technology: Surface Mount; ComponentLink1Description: Manufacturer URL; ComponentLink1URL: http://www.ti.com/; ComponentLink2Description: Datasheet; ComponentLink2URL: http://www.ti.com/general/docs/lit/getliterature.tsp?genericPartNumber=TPS79921&fileType=pdf; ComponentLink3Description: Package Specification; ComponentLink3URL: http://www.ti.com/litv/pdf/mpds018i
footprint TI-YZU5-1337x971DE (BGA, 5-Balls, Body 1.337x0.971mm, Pitch 0.25mm)
pins: A1 EN (in) "Driving the enable pin (EN) high turns on the regulator. Driving this pin low puts the regulator into shutdown mode. EN can be connected to IN if not used.", A3 NR "Fixed voltage versions only; connecting an external capacitor to this pin bypasses noise generated by the internal bandgap. This capacitor allows output noise to be reduced to very low levels.", B2 GND (power) "Ground", C1 OUT (power) "Output of the regulator. A small capacitor (total typical capacitance >= 2.0mF ceramic) is needed from this pin to ground to assure stability.", C3 IN (power) "Input supply."

## TPS79921YZUT
designator U?
Single Output High PSRR LDO, 200 mA, Fixed 2.1 V Output, 2.7 to 6.5 V Input, with Ultra-Low Noise, 5-pin DSBGA (YZU), -40 to 85 degC, Green (RoHS & no Sb/Br); Manufacturer: Texas Instruments; PartNumber: TPS79921YZUT; Accuracy(%): 2; Fixed Output Options(V): 2.1; Iout(Max)(A): 0.2; Iq(Typ)(mA): 0.04; Rating: Catalog; SubFamily: Single Channel LDO; Vdo(Typ)(mV): 100; Vin(Max)(V): 6.5; Vin(Min)(V): 2.7; DatasheetVersion: SBVS056J; PackageVersion: 4205678/D; PackageReference: YZU5; PackageDescription: 5-Pin Silicon Grid Array, Body 1.337 x 0.971 mm, Pitch 0.25 mm; Supplier 1: Digi-Key; Supplier Part Number 1: 296-32581-2-ND; Supplier 2: Digi-Key; Supplier Part Number 2: 296-32581-1-ND; Supplier 3: Digi-Key; Supplier Part Number 3: 296-32581-6-ND; Supplier 4: Newark; Supplier Part Number 4: 72M4786; Supplier 5: Mouser; Supplier Part Number 5: 595-TPS79921YZUT; Eco-Plan: Green (RoHS & no Sb/Br); Vout Adj(Max)(V): 2.1; Vout Adj(Min)(V): 2.1; Mounting Technology: Surface Mount; ComponentLink1Description: Manufacturer URL; ComponentLink1URL: http://www.ti.com/; ComponentLink2Description: Datasheet; ComponentLink2URL: http://www.ti.com/general/docs/lit/getliterature.tsp?genericPartNumber=TPS79921&fileType=pdf; ComponentLink3Description: Package Specification; ComponentLink3URL: http://www.ti.com/litv/pdf/mpds018i
footprint TI-YZU5-1337x971DE (BGA, 5-Balls, Body 1.337x0.971mm, Pitch 0.25mm)
pins: A1 EN (in) "Driving the enable pin (EN) high turns on the regulator. Driving this pin low puts the regulator into shutdown mode. EN can be connected to IN if not used.", A3 NR "Fixed voltage versions only; connecting an external capacitor to this pin bypasses noise generated by the internal bandgap. This capacitor allows output noise to be reduced to very low levels.", B2 GND (power) "Ground", C1 OUT (power) "Output of the regulator. A small capacitor (total typical capacitance >= 2.0mF ceramic) is needed from this pin to ground to assure stability.", C3 IN (power) "Input supply."

## TPS79925DDCR
designator U?
Single Output High PSRR LDO, 200 mA, Fixed 2.5 V Output, 2.7 to 6.5 V Input, with Low IQ, 5-pin SOT (DDC), -40 to 85 degC, Green (RoHS & no Sb/Br); Manufacturer: Texas Instruments; PartNumber: TPS79925DDCR; Accuracy(%): 2; Fixed Output Options(V): 2.5; Iout(Max)(A): 0.2; Iq(Typ)(mA): 0.04; Rating: Catalog; SubFamily: Single Channel LDO; Vdo(Typ)(mV): 100; Vin(Max)(V): 6.5; Vin(Min)(V): 2.7; DatasheetVersion: SBVS056J; PackageVersion: 4204403-2/E; PackageReference: DDC5; PackageDescription: 5-Pin Plastic Small Outline, Body 2.9 x 1.6 mm, 0.95 mm Pitch; Supplier 1: Digi-Key; Supplier Part Number 1: TPS79925DDCR-ND; Supplier 2: Farnell; Supplier Part Number 2: 1413010; Supplier 3: Newark; Supplier Part Number 3: 08K4983; Supplier 4: Mouser; Supplier Part Number 4: 595-TPS79925DDCR; Eco-Plan: Green (RoHS & no Sb/Br); Vout Adj(Max)(V): 2.5; Vout Adj(Min)(V): 2.5; Mounting Technology: Surface Mount; Code_JEDEC: MO-193; ComponentLink1Description: Manufacturer URL; ComponentLink1URL: http://www.ti.com/; ComponentLink2Description: Datasheet; ComponentLink2URL: http://www.ti.com/general/docs/lit/getliterature.tsp?genericPartNumber=TPS79925&fileType=pdf; ComponentLink3Description: Package Specification; ComponentLink3URL: http://www.ti.com/litv/pdf/mpds123d
footprint TI-DDC5_N (SOT23, 5-Leads, Body 2.9x1.6mm, Pitch 0.95mm, IPC Medium Density)
footprint TI-DDC5_L (SOT23, 5-Leads, Body 2.9x1.6mm, Pitch 0.95mm, IPC High Density)
footprint TI-DDC5_M (SOT23, 5-Leads, Body 2.9x1.6mm, Pitch 0.95mm, IPC Low Density)
pins: 1 IN (power) "Input supply.", 2 GND (power) "Ground.", 3 EN (in) "Driving the enable pin (EN) high turns on the regulator .Driving this pin low puts the regulator into shutdown mode.EN can be connected to IN if not used.", 4 NR "Fixed voltage versions only; connecting an external capacitor to this pin bypasses noise generated by the internal bandgap. This capacitor allows output noise to be reduced to very low levels.", 5 OUT (power) "Output for the regulator. A small capacitor (total typical capacitance >= 2.0uF ceramic) is needed from this pin to ground to assure stability."

## TPS79925DDCRG4
designator U?
Single Output High PSRR LDO, 200 mA, Fixed 2.5 V Output, 2.7 to 6.5 V Input, with Low IQ, 5-pin SOT (DDC), -40 to 85 degC, Green (RoHS & no Sb/Br); Manufacturer: Texas Instruments; PartNumber: TPS79925DDCRG4; Accuracy(%): 2; Fixed Output Options(V): 2.5; Iout(Max)(A): 0.2; Iq(Typ)(mA): 0.04; Rating: Catalog; SubFamily: Single Channel LDO; Vdo(Typ)(mV): 100; Vin(Max)(V): 6.5; Vin(Min)(V): 2.7; DatasheetVersion: SBVS056J; PackageVersion: 4204403-2/E; PackageReference: DDC5; PackageDescription: 5-Pin Plastic Small Outline, Body 2.9 x 1.6 mm, 0.95 mm Pitch; Supplier 1: Digi-Key; Supplier Part Number 1: TPS79925DDCRG4-ND; Supplier 2: Newark; Supplier Part Number 2: 24K6234; Supplier 3: Mouser; Supplier Part Number 3: 595-TPS79925DDCRG4; Eco-Plan: Green (RoHS & no Sb/Br); Vout Adj(Max)(V): 2.5; Vout Adj(Min)(V): 2.5; Mounting Technology: Surface Mount; Code_JEDEC: MO-193; ComponentLink1Description: Manufacturer URL; ComponentLink1URL: http://www.ti.com/; ComponentLink2Description: Datasheet; ComponentLink2URL: http://www.ti.com/general/docs/lit/getliterature.tsp?genericPartNumber=TPS79925&fileType=pdf; ComponentLink3Description: Package Specification; ComponentLink3URL: http://www.ti.com/litv/pdf/mpds123d
footprint TI-DDC5_N (SOT23, 5-Leads, Body 2.9x1.6mm, Pitch 0.95mm, IPC Medium Density)
footprint TI-DDC5_L (SOT23, 5-Leads, Body 2.9x1.6mm, Pitch 0.95mm, IPC High Density)
footprint TI-DDC5_M (SOT23, 5-Leads, Body 2.9x1.6mm, Pitch 0.95mm, IPC Low Density)
pins: 1 IN (power) "Input supply.", 2 GND (power) "Ground.", 3 EN (in) "Driving the enable pin (EN) high turns on the regulator .Driving this pin low puts the regulator into shutdown mode.EN can be connected to IN if not used.", 4 NR "Fixed voltage versions only; connecting an external capacitor to this pin bypasses noise generated by the internal bandgap. This capacitor allows output noise to be reduced to very low levels.", 5 OUT (power) "Output for the regulator. A small capacitor (total typical capacitance >= 2.0uF ceramic) is needed from this pin to ground to assure stability."

## TPS79925DDCT
designator U?
Single Output High PSRR LDO, 200 mA, Fixed 2.5 V Output, 2.7 to 6.5 V Input, with Low IQ, 5-pin SOT (DDC), -40 to 85 degC, Green (RoHS & no Sb/Br); Manufacturer: Texas Instruments; PartNumber: TPS79925DDCT; Accuracy(%): 2; Fixed Output Options(V): 2.5; Iout(Max)(A): 0.2; Iq(Typ)(mA): 0.04; Rating: Catalog; SubFamily: Single Channel LDO; Vdo(Typ)(mV): 100; Vin(Max)(V): 6.5; Vin(Min)(V): 2.7; DatasheetVersion: SBVS056J; PackageVersion: 4204403-2/E; PackageReference: DDC5; PackageDescription: 5-Pin Plastic Small Outline, Body 2.9 x 1.6 mm, 0.95 mm Pitch; Supplier 1: Digi-Key; Supplier Part Number 1: 296-17779-2-ND; Supplier 2: Digi-Key; Supplier Part Number 2: 296-17779-1-ND; Supplier 3: Digi-Key; Supplier Part Number 3: 296-17779-6-ND; Supplier 4: Farnell; Supplier Part Number 4: 1135400RL; Supplier 5: Farnell; Supplier Part Number 5: 1135400; Supplier 6: Newark; Supplier Part Number 6: 08K4984; Supplier 7: Mouser; Supplier Part Number 7: 595-TPS79925DDCT; Eco-Plan: Green (RoHS & no Sb/Br); Vout Adj(Max)(V): 2.5; Vout Adj(Min)(V): 2.5; Mounting Technology: Surface Mount; Code_JEDEC: MO-193; ComponentLink1Description: Manufacturer URL; ComponentLink1URL: http://www.ti.com/; ComponentLink2Description: Datasheet; ComponentLink2URL: http://www.ti.com/general/docs/lit/getliterature.tsp?genericPartNumber=TPS79925&fileType=pdf; ComponentLink3Description: Package Specification; ComponentLink3URL: http://www.ti.com/litv/pdf/mpds123d
footprint TI-DDC5_N (SOT23, 5-Leads, Body 2.9x1.6mm, Pitch 0.95mm, IPC Medium Density)
footprint TI-DDC5_L (SOT23, 5-Leads, Body 2.9x1.6mm, Pitch 0.95mm, IPC High Density)
footprint TI-DDC5_M (SOT23, 5-Leads, Body 2.9x1.6mm, Pitch 0.95mm, IPC Low Density)
pins: 1 IN (power) "Input supply.", 2 GND (power) "Ground.", 3 EN (in) "Driving the enable pin (EN) high turns on the regulator .Driving this pin low puts the regulator into shutdown mode.EN can be connected to IN if not used.", 4 NR "Fixed voltage versions only; connecting an external capacitor to this pin bypasses noise generated by the internal bandgap. This capacitor allows output noise to be reduced to very low levels.", 5 OUT (power) "Output for the regulator. A small capacitor (total typical capacitance >= 2.0uF ceramic) is needed from this pin to ground to assure stability."

## TPS79925DDCTG4
designator U?
Single Output High PSRR LDO, 200 mA, Fixed 2.5 V Output, 2.7 to 6.5 V Input, with Low IQ, 5-pin SOT (DDC), -40 to 85 degC, Green (RoHS & no Sb/Br); Manufacturer: Texas Instruments; PartNumber: TPS79925DDCTG4; Accuracy(%): 2; Fixed Output Options(V): 2.5; Iout(Max)(A): 0.2; Iq(Typ)(mA): 0.04; Rating: Catalog; SubFamily: Single Channel LDO; Vdo(Typ)(mV): 100; Vin(Max)(V): 6.5; Vin(Min)(V): 2.7; DatasheetVersion: SBVS056J; PackageVersion: 4204403-2/E; PackageReference: DDC5; PackageDescription: 5-Pin Plastic Small Outline, Body 2.9 x 1.6 mm, 0.95 mm Pitch; Supplier 1: Digi-Key; Supplier Part Number 1: TPS79925DDCTG4-ND; Supplier 2: Mouser; Supplier Part Number 2: 595-TPS79925DDCTG4; Eco-Plan: Green (RoHS & no Sb/Br); Vout Adj(Max)(V): 2.5; Vout Adj(Min)(V): 2.5; Mounting Technology: Surface Mount; Code_JEDEC: MO-193; ComponentLink1Description: Manufacturer URL; ComponentLink1URL: http://www.ti.com/; ComponentLink2Description: Datasheet; ComponentLink2URL: http://www.ti.com/general/docs/lit/getliterature.tsp?genericPartNumber=TPS79925&fileType=pdf; ComponentLink3Description: Package Specification; ComponentLink3URL: http://www.ti.com/litv/pdf/mpds123d
footprint TI-DDC5_N (SOT23, 5-Leads, Body 2.9x1.6mm, Pitch 0.95mm, IPC Medium Density)
footprint TI-DDC5_L (SOT23, 5-Leads, Body 2.9x1.6mm, Pitch 0.95mm, IPC High Density)
footprint TI-DDC5_M (SOT23, 5-Leads, Body 2.9x1.6mm, Pitch 0.95mm, IPC Low Density)
pins: 1 IN (power) "Input supply.", 2 GND (power) "Ground.", 3 EN (in) "Driving the enable pin (EN) high turns on the regulator .Driving this pin low puts the regulator into shutdown mode.EN can be connected to IN if not used.", 4 NR "Fixed voltage versions only; connecting an external capacitor to this pin bypasses noise generated by the internal bandgap. This capacitor allows output noise to be reduced to very low levels.", 5 OUT (power) "Output for the regulator. A small capacitor (total typical capacitance >= 2.0uF ceramic) is needed from this pin to ground to assure stability."

## TPS79925QDDCRQ1
designator U?
Single Output High PSRR LDO, 200 mA, Fixed 2.5 V Output, 2.7 to 6.5 V Input, with Low IQ, 5-pin SOT (DDC), -40 to 125 degC, Green (RoHS & no Sb/Br); Manufacturer: Texas Instruments; PartNumber: TPS79925QDDCRQ1; Accuracy(%): 2; Fixed Output Options(V): 2.5; Iout(Max)(A): 0.2; Iq(Typ)(mA): 0.04; Rating: Automotive; SubFamily: Single Channel LDO; Vdo(Typ)(mV): 100; Vin(Max)(V): 6.5; Vin(Min)(V): 2.7; DatasheetVersion: SBVS097E; PackageVersion: 4204403-2/E; PackageReference: DDC5; PackageDescription: 5-Pin Plastic Small Outline, Body 2.9 x 1.6 mm, 0.95 mm Pitch; Supplier 1: Digi-Key; Supplier Part Number 1: 296-25741-2-ND; Supplier 2: Digi-Key; Supplier Part Number 2: 296-25741-1-ND; Supplier 3: Digi-Key; Supplier Part Number 3: 296-25741-6-ND; Supplier 4: Newark; Supplier Part Number 4: 64R0798; Supplier 5: Mouser; Supplier Part Number 5: 595-TPS79925QDDCRQ1; Eco-Plan: Green (RoHS & no Sb/Br); Vout Adj(Max)(V): 2.5; Vout Adj(Min)(V): 2.5; Mounting Technology: Surface Mount; Code_JEDEC: MO-193; ComponentLink1Description: Manufacturer URL; ComponentLink1URL: http://www.ti.com/; ComponentLink2Description: Datasheet; ComponentLink2URL: http://www.ti.com/general/docs/lit/getliterature.tsp?genericPartNumber=TPS79925-Q1&fileType=pdf; ComponentLink3Description: Package Specification; ComponentLink3URL: http://www.ti.com/litv/pdf/mpds123d
footprint TI-DDC5_N (SOT23, 5-Leads, Body 2.9x1.6mm, Pitch 0.95mm, IPC Medium Density)
footprint TI-DDC5_L (SOT23, 5-Leads, Body 2.9x1.6mm, Pitch 0.95mm, IPC High Density)
footprint TI-DDC5_M (SOT23, 5-Leads, Body 2.9x1.6mm, Pitch 0.95mm, IPC Low Density)
pins: 1 IN (power) "Input supply.", 2 GND (power) "Ground.", 3 EN (in) "Driving the enable pin (EN) high turns on the regulator .Driving this pin low puts the regulator into shutdown mode.EN can be connected to IN if not used.", 4 NR "Fixed voltage versions only; connecting an external capacitor to this pin bypasses noise generated by the internal bandgap. This capacitor allows output noise to be reduced to very low levels.", 5 OUT (power) "Output for the regulator. A small capacitor (total typical capacitance >= 2.0uF ceramic) is needed from this pin to ground to assure stability."

## TPS79925YZUR
designator U?
Single Output High PSRR LDO, 200 mA, Fixed 2.5 V Output, 2.7 to 6.5 V Input, with Low IQ, 5-pin DSBGA (YZU), -40 to 85 degC, Green (RoHS & no Sb/Br); Manufacturer: Texas Instruments; PartNumber: TPS79925YZUR; Accuracy(%): 2; Fixed Output Options(V): 2.5; Iout(Max)(A): 0.2; Iq(Typ)(mA): 0.04; Rating: Catalog; SubFamily: Single Channel LDO; Vdo(Typ)(mV): 100; Vin(Max)(V): 6.5; Vin(Min)(V): 2.7; DatasheetVersion: SBVS056J; PackageVersion: 4205678/D; PackageReference: YZU5; PackageDescription: 5-Pin Silicon Grid Array, Body 1.337 x 0.971 mm, Pitch 0.25 mm; Supplier 1: Digi-Key; Supplier Part Number 1: TPS79925YZUR-ND; Supplier 2: Newark; Supplier Part Number 2: 57K1335; Supplier 3: Mouser; Supplier Part Number 3: 595-TPS79925YZUR; Eco-Plan: Green (RoHS & no Sb/Br); Vout Adj(Max)(V): 2.5; Vout Adj(Min)(V): 2.5; Mounting Technology: Surface Mount; ComponentLink1Description: Manufacturer URL; ComponentLink1URL: http://www.ti.com/; ComponentLink2Description: Datasheet; ComponentLink2URL: http://www.ti.com/general/docs/lit/getliterature.tsp?genericPartNumber=TPS79925&fileType=pdf; ComponentLink3Description: Package Specification; ComponentLink3URL: http://www.ti.com/litv/pdf/mpds018i
footprint TI-YZU5-1337x971DE (BGA, 5-Balls, Body 1.337x0.971mm, Pitch 0.25mm)
pins: A1 EN (in) "Driving the enable pin (EN) high turns on the regulator. Driving this pin low puts the regulator into shutdown mode. EN can be connected to IN if not used.", A3 NR "Fixed voltage versions only; connecting an external capacitor to this pin bypasses noise generated by the internal bandgap. This capacitor allows output noise to be reduced to very low levels.", B2 GND (power) "Ground", C1 OUT (power) "Output of the regulator. A small capacitor (total typical capacitance >= 2.0mF ceramic) is needed from this pin to ground to assure stability.", C3 IN (power) "Input supply."

## TPS79925YZUT
designator U?
Single Output High PSRR LDO, 200 mA, Fixed 2.5 V Output, 2.7 to 6.5 V Input, with Low IQ, 5-pin DSBGA (YZU), -40 to 85 degC, Green (RoHS & no Sb/Br); Manufacturer: Texas Instruments; PartNumber: TPS79925YZUT; Accuracy(%): 2; Fixed Output Options(V): 2.5; Iout(Max)(A): 0.2; Iq(Typ)(mA): 0.04; Rating: Catalog; SubFamily: Single Channel LDO; Vdo(Typ)(mV): 100; Vin(Max)(V): 6.5; Vin(Min)(V): 2.7; DatasheetVersion: SBVS056J; PackageVersion: 4205678/D; PackageReference: YZU5; PackageDescription: 5-Pin Silicon Grid Array, Body 1.337 x 0.971 mm, Pitch 0.25 mm; Supplier 1: Digi-Key; Supplier Part Number 1: 296-18345-2-ND; Supplier 2: Digi-Key; Supplier Part Number 2: 296-18345-1-ND; Supplier 3: Digi-Key; Supplier Part Number 3: 296-18345-6-ND; Supplier 4: Newark; Supplier Part Number 4: 57K1336; Supplier 5: Mouser; Supplier Part Number 5: 595-TPS79925YZUT; Eco-Plan: Green (RoHS & no Sb/Br); Vout Adj(Max)(V): 2.5; Vout Adj(Min)(V): 2.5; Mounting Technology: Surface Mount; ComponentLink1Description: Manufacturer URL; ComponentLink1URL: http://www.ti.com/; ComponentLink2Description: Datasheet; ComponentLink2URL: http://www.ti.com/general/docs/lit/getliterature.tsp?genericPartNumber=TPS79925&fileType=pdf; ComponentLink3Description: Package Specification; ComponentLink3URL: http://www.ti.com/litv/pdf/mpds018i
footprint TI-YZU5-1337x971DE (BGA, 5-Balls, Body 1.337x0.971mm, Pitch 0.25mm)
pins: A1 EN (in) "Driving the enable pin (EN) high turns on the regulator. Driving this pin low puts the regulator into shutdown mode. EN can be connected to IN if not used.", A3 NR "Fixed voltage versions only; connecting an external capacitor to this pin bypasses noise generated by the internal bandgap. This capacitor allows output noise to be reduced to very low levels.", B2 GND (power) "Ground", C1 OUT (power) "Output of the regulator. A small capacitor (total typical capacitance >= 2.0mF ceramic) is needed from this pin to ground to assure stability.", C3 IN (power) "Input supply."

## TPS79926YZUR
designator U?
Single Output High PSRR LDO, 200 mA, Fixed 2.6 V Output, 2.7 to 6.5 V Input, with Low IQ, 5-pin DSBGA (YZU), -40 to 85 degC, Green (RoHS & no Sb/Br); Manufacturer: Texas Instruments; PartNumber: TPS79926YZUR; Accuracy(%): 2; Fixed Output Options(V): 2.6; Iout(Max)(A): 0.2; Iq(Typ)(mA): 0.04; Rating: Catalog; SubFamily: Single Channel LDO; Vdo(Typ)(mV): 100; Vin(Max)(V): 6.5; Vin(Min)(V): 2.7; DatasheetVersion: SBVS056J; PackageVersion: 4205678/D; PackageReference: YZU5; PackageDescription: 5-Pin Silicon Grid Array, Body 1.337 x 0.971 mm, Pitch 0.25 mm; Supplier 1: Digi-Key; Supplier Part Number 1: 296-19562-2-ND; Supplier 2: Digi-Key; Supplier Part Number 2: 296-19562-1-ND; Supplier 3: Newark; Supplier Part Number 3: 80K3451; Supplier 4: Mouser; Supplier Part Number 4: 595-TPS79926YZUR; Eco-Plan: Green (RoHS & no Sb/Br); Vout Adj(Max)(V): 2.6; Vout Adj(Min)(V): 2.6; Mounting Technology: Surface Mount; ComponentLink1Description: Manufacturer URL; ComponentLink1URL: http://www.ti.com/; ComponentLink2Description: Datasheet; ComponentLink2URL: http://www.ti.com/general/docs/lit/getliterature.tsp?genericPartNumber=TPS79926&fileType=pdf; ComponentLink3Description: Package Specification; ComponentLink3URL: http://www.ti.com/litv/pdf/mpds018i
footprint TI-YZU5-1337x971DE (BGA, 5-Balls, Body 1.337x0.971mm, Pitch 0.25mm)
pins: A1 EN (in) "Driving the enable pin (EN) high turns on the regulator. Driving this pin low puts the regulator into shutdown mode. EN can be connected to IN if not used.", A3 NR "Fixed voltage versions only; connecting an external capacitor to this pin bypasses noise generated by the internal bandgap. This capacitor allows output noise to be reduced to very low levels.", B2 GND (power) "Ground", C1 OUT (power) "Output of the regulator. A small capacitor (total typical capacitance >= 2.0mF ceramic) is needed from this pin to ground to assure stability.", C3 IN (power) "Input supply."

## TPS79926YZUT
designator U?
Single Output High PSRR LDO, 200 mA, Fixed 2.6 V Output, 2.7 to 6.5 V Input, with Low IQ, 5-pin DSBGA (YZU), -40 to 85 degC, Green (RoHS & no Sb/Br); Manufacturer: Texas Instruments; PartNumber: TPS79926YZUT; Accuracy(%): 2; Fixed Output Options(V): 2.6; Iout(Max)(A): 0.2; Iq(Typ)(mA): 0.04; Rating: Catalog; SubFamily: Single Channel LDO; Vdo(Typ)(mV): 100; Vin(Max)(V): 6.5; Vin(Min)(V): 2.7; DatasheetVersion: SBVS056J; PackageVersion: 4205678/D; PackageReference: YZU5; PackageDescription: 5-Pin Silicon Grid Array, Body 1.337 x 0.971 mm, Pitch 0.25 mm; Supplier 1: Digi-Key; Supplier Part Number 1: TPS79926YZUT-ND; Supplier 2: Mouser; Supplier Part Number 2: 595-TPS79926YZUT; Eco-Plan: Green (RoHS & no Sb/Br); Vout Adj(Max)(V): 2.6; Vout Adj(Min)(V): 2.6; Mounting Technology: Surface Mount; ComponentLink1Description: Manufacturer URL; ComponentLink1URL: http://www.ti.com/; ComponentLink2Description: Datasheet; ComponentLink2URL: http://www.ti.com/general/docs/lit/getliterature.tsp?genericPartNumber=TPS79926&fileType=pdf; ComponentLink3Description: Package Specification; ComponentLink3URL: http://www.ti.com/litv/pdf/mpds018i
footprint TI-YZU5-1337x971DE (BGA, 5-Balls, Body 1.337x0.971mm, Pitch 0.25mm)
pins: A1 EN (in) "Driving the enable pin (EN) high turns on the regulator. Driving this pin low puts the regulator into shutdown mode. EN can be connected to IN if not used.", A3 NR "Fixed voltage versions only; connecting an external capacitor to this pin bypasses noise generated by the internal bandgap. This capacitor allows output noise to be reduced to very low levels.", B2 GND (power) "Ground", C1 OUT (power) "Output of the regulator. A small capacitor (total typical capacitance >= 2.0mF ceramic) is needed from this pin to ground to assure stability.", C3 IN (power) "Input supply."